# EAGLE library part PCBHOLE (library IBe-9102-lib)
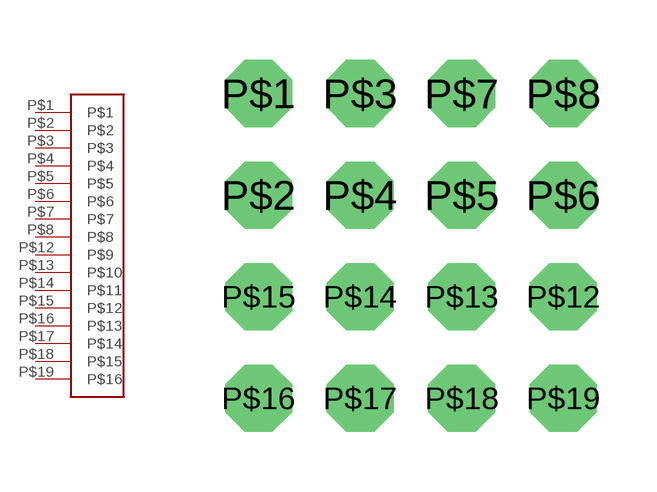
[diagram p7: symbol with the pads of PCBHOLE-1; footprint PCBHOLE-1]

Designator prefix -

## PCBHOLE  [PCBHOLE-1]
P$1  P$1
P$2  P$2
P$3  P$3
P$4  P$4
P$5  P$5
P$6  P$6
P$7  P$7
P$8  P$8
P$12  P$9
P$13  P$10
P$14  P$11
P$15  P$12
P$16  P$13
P$17  P$14
P$18  P$15
P$19  P$16

## Footprint PCBHOLE-1 (pad centres in mm)
drill 0.9 pad 1.676 octagon: P$1 -5.08,6.35; P$2 -5.08,3.81; P$3 -2.54,6.35; P$4 -2.54,3.81; P$5 0,3.81; P$6 2.54,3.81; P$7 0,6.35; P$8 2.54,6.35; P$12 2.54,1.27; P$13 0,1.27; P$14 -2.54,1.27; P$15 -5.08,1.27; P$16 -5.08,-1.27; P$17 -2.54,-1.27; P$18 0,-1.27; P$19 2.54,-1.27